# Altium footprint library DTSM62.PcbLib: 1 footprints
Each footprint in its own frame and in the unit in brackets; x right, y up, seen from the top. Pads: shape width x height; smd on the part's side, far side on the other; paste and mask are expansions set on the pad; w line width, h text height; cw(c..) or ccw(c..) is an arc to the next point about the centre after c.
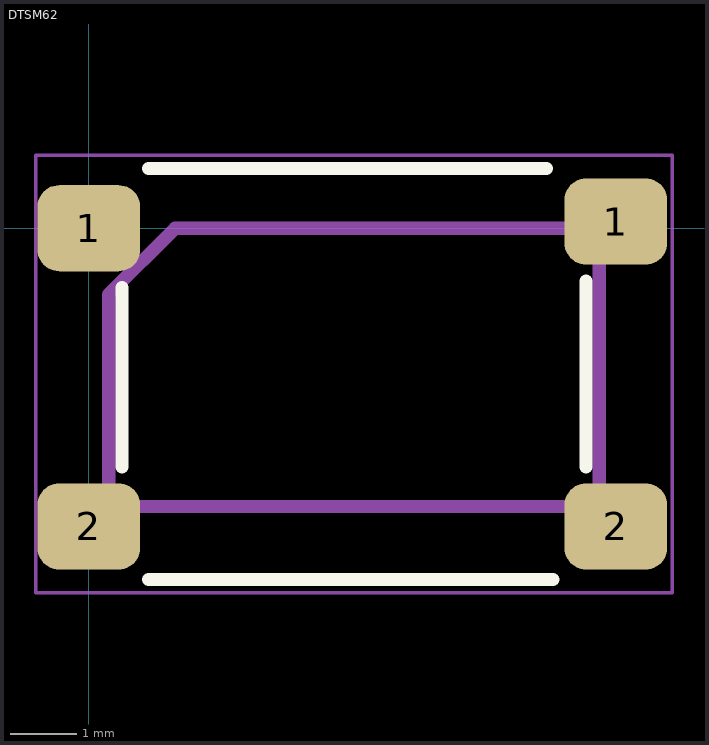
[diagram p0: the footprint, top view; thin cyan lines are the x and y axes]

## DTSM62 [mm]
pads (4):
  rrect50% 1.55x1.3 smd mask+0: 1(0,0) 1(7.95,0.1) 2(0,-4.5) 2(7.95,-4.5)
Top Overlay:
  lines w0.2: 0.5,-3.6 0.5,-0.9 ; 0.9,-5.3 7,-5.3 ; 0.9,0.9 6.9,0.9 ; 7.5,-3.6 7.5,-0.8
Mechanical 3:
  lines w0.2: 0.3,-4.2 7.7,-4.2 7.7,0 1.3,0 0.3,-1 0.3,-4.2
Mechanical 7:
  lines w0.05: -0.8,-5.5 -0.8,-5.2 -0.8,1.1 8.8,1.1 8.8,-5.5 -0.8,-5.5
3D body: height 5.1, standoff 0, extent -0.8,-5.5 8.8,1.1
3D body "DTSM-62..STEP": height 5.11, standoff 0.01, extent -0.6,-5.3 8.4,0.9